# Altium footprint library BrakePlaus2019.PcbLib: 2 footprints
Each footprint in its own frame and in the unit in brackets; x right, y up, seen from the top. Pads: shape width x height; smd on the part's side, far side on the other; paste and mask are expansions set on the pad; w line width, h text height; cw(c..) or ccw(c..) is an arc to the next point about the centre after c.
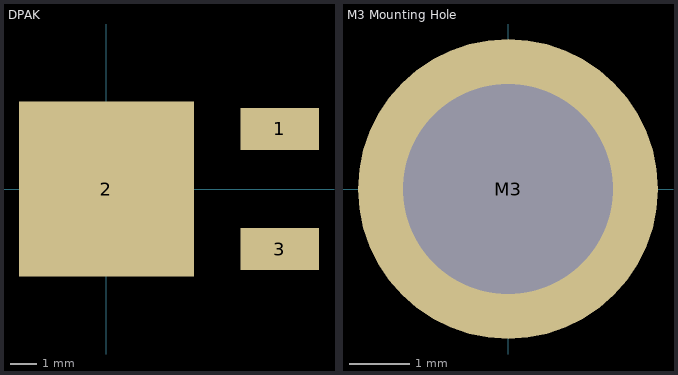
[diagram p0: the footprints below, top view; thin cyan lines are the x and y axes]

## DPAK [mm]
pads (3):
  rect 3x1.6 smd: 1(6.65,2.3) 3(6.65,-2.3)
  rect 6.7x6.7 smd: 2(0,0)

## M3 Mounting Hole [mm]
pads (1):
  round 5 hole 3.5: M3(0,0)